# EAGLE library part CAT24C16 (library LARS_409_FLASH)
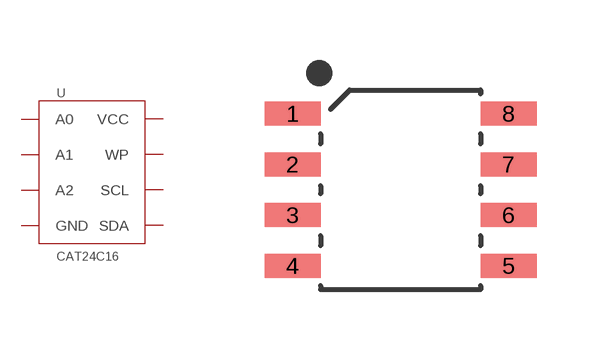
[diagram p0: symbol with the pads of SOIC-8; footprint SOIC-8]

Designator prefix U

## CAT24C16  [SOIC-8]
1  A0
2  A1
3  A2
4  GND
5  SDA
6  SCL
7  WP
8  VCC

## Footprint SOIC-8 (pad centres in mm)
smd 1.4 x 0.6: 1 -2.7,1.905; 2 -2.7,0.635; 3 -2.7,-0.635; 4 -2.7,-1.905; 5 2.7,-1.905; 6 2.7,-0.635; 7 2.7,0.635; 8 2.7,1.905